# EAGLE library part LTD-5623AG (library Magister-Libraries)
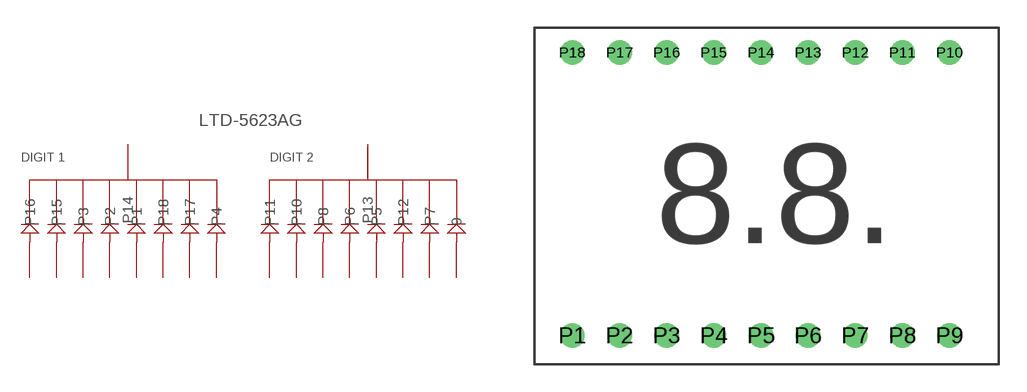
[diagram p1: symbol with the pads of LTD-5623AG; footprint LTD-5623AG]

Designator prefix -

## LTD-5623AG  [LTD-5623AG]
P1  P1
P2  P2
P3  P3
P4  P4
P5  P5
P6  P6
P7  P7
P8  P8
P9  9
P10  P10
P11  P11
P12  P12
P13  P13
P14  P14
P15  P15
P16  P16
P17  P17
P18  P18

## Footprint LTD-5623AG (pad centres in mm)
2-digit 7-segment
drill 0.8: P1 2.04,1.54; P2 4.58,1.54; P3 7.12,1.54; P4 9.66,1.54; P5 12.2,1.54; P6 14.74,1.54; P7 17.28,1.54; P8 19.82,1.54; P9 22.36,1.54; P10 22.36,16.78; P11 19.82,16.78; P12 17.28,16.78; P13 14.74,16.78; P14 12.2,16.78; P15 9.66,16.78; P16 7.12,16.78; P17 4.58,16.78; P18 2.04,16.78